# Altium footprint library SMO01A.PcbLib: 1 footprints
Each footprint in its own frame and in the unit in brackets; x right, y up, seen from the top. Pads: shape width x height; smd on the part's side, far side on the other; paste and mask are expansions set on the pad; w line width, h text height; cw(c..) or ccw(c..) is an arc to the next point about the centre after c.
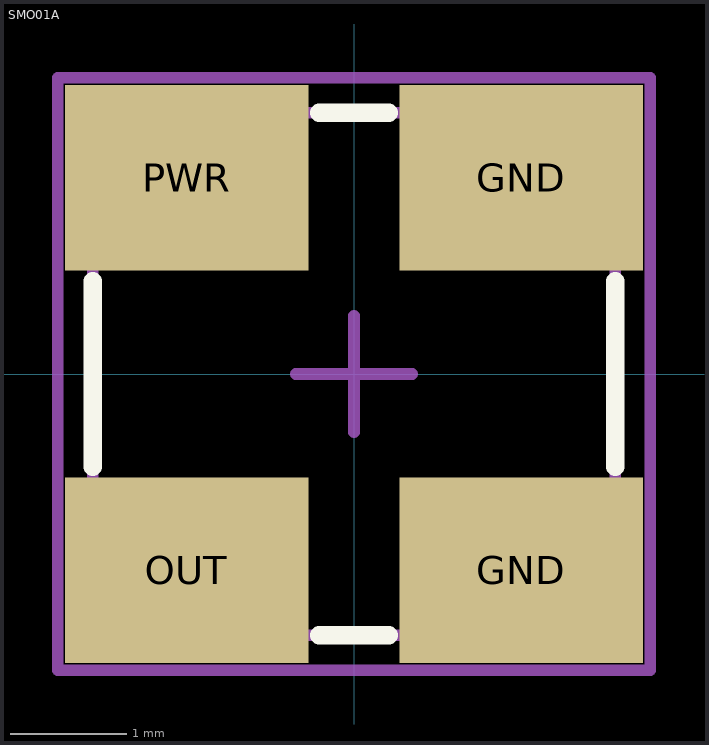
[diagram p0: the footprint, top view; thin cyan lines are the x and y axes]

## SMO01A [mm] "Silicon Microphone"
height 1.6
pads (4):
  rect 2.1x1.6 smd: GND(1.44,-1.69) GND(1.44,1.69) OUT(-1.44,-1.69) PWR(-1.44,1.69)
Top Overlay:
  lines w0.16: -2.25,-0.8 -2.25,0.8 ; -0.3,-2.25 0.3,-2.25 ; -0.3,2.25 0.3,2.25 ; 2.25,-0.8 2.25,0.8
Mechanical 13:
  lines w0.1: -2.25,-2.25 -2.25,2.25 2.25,2.25 2.25,-2.25 -2.25,-2.25
Mechanical 15:
  lines w0.1: -0.5,0 0.5,0 ; 0,-0.5 0,0.5 ; -2.55,-2.55 -2.55,2.55 2.55,2.55 2.55,-2.55 -2.55,-2.55
3D body "SMO01A.stp": height 1.42, standoff -0.01, extent -2.249,-2.25 2.249,2.25